# EAGLE library part FLAT-FLEX-CONNECTOR-RA-24POS (library FlashPCB_Connectors)
FLAT-FLEX-CONNECTOR-RA-24POS - Flat Flex Connector 24 position Right Angle Technical Specifications: Number of Positions: 24 Contact: Top or Bottom Mount: Right Angle
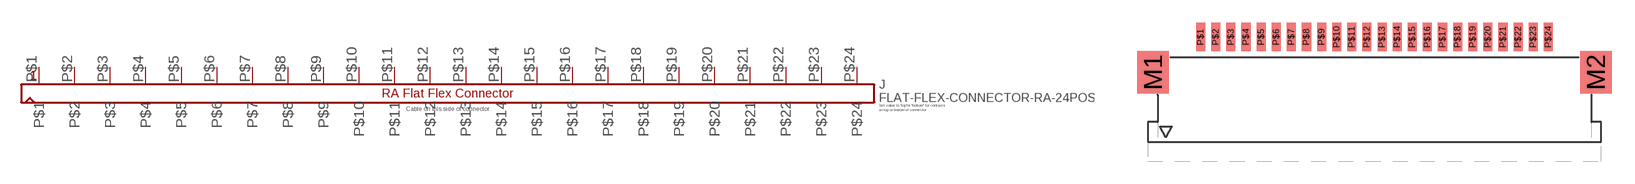
[diagram p116: symbol with the pads of FLAT-FLEX-CONNECTOR-MOLEX-522XX-RA-24POS; footprint FLAT-FLEX-CONNECTOR-MOLEX-522XX-RA-24POS]

Designator prefix J

## FLAT-FLEX-CONNECTOR-RA-24POS1MM-PITCH  [FLAT-FLEX-CONNECTOR-MOLEX-522XX-RA-24POS]
P$1  P$1
P$2  P$2
P$3  P$3
P$4  P$4
P$5  P$5
P$6  P$6
P$7  P$7
P$8  P$8
P$9  P$9
P$10  P$10
P$11  P$11
P$12  P$12
P$13  P$13
P$14  P$14
P$15  P$15
P$16  P$16
P$17  P$17
P$18  P$18
P$19  P$19
P$20  P$20
P$21  P$21
P$22  P$22
P$23  P$23
P$24  P$24

## Footprint FLAT-FLEX-CONNECTOR-MOLEX-522XX-RA-24POS (pad centres in mm)
smd 2.1 x 2.8: M1 -14.65,-1.4; M2 14.65,-1.4
smd 0.6 x 1.9: P$1 -11.5,0.95; P$2 -10.5,0.95; P$3 -9.5,0.95; P$4 -8.5,0.95; P$5 -7.5,0.95; P$6 -6.5,0.95; P$7 -5.5,0.95; P$8 -4.5,0.95; P$9 -3.5,0.95; P$10 -2.5,0.95; P$11 -1.5,0.95; P$12 -0.5,0.95; P$13 0.5,0.95; P$14 1.5,0.95; P$15 2.5,0.95; P$16 3.5,0.95; P$17 4.5,0.95; P$18 5.5,0.95; P$19 6.5,0.95; P$20 7.5,0.95; P$21 8.5,0.95; P$22 9.5,0.95; P$23 10.5,0.95; P$24 11.5,0.95